# Altium schematic symbol library W25N04KVZEIR.SchLib: 2 symbols
Pins are listed as number, name and electrical type; pins without a type are passive.

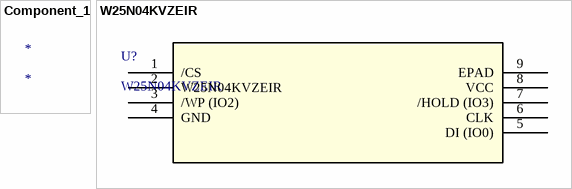
[diagram p0: symbols Component_1 to W25N04KVZEIR]

## Component_1
designator *

## W25N04KVZEIR
designator U?
No Description Available; Mfr_Name: Winbond; Type: DEV; Copyright: Copyright (C) 2024 Ultra Librarian. All rights reserved.; Manufacturer_Part_Number: W25N04KVZEIR; RefDes: RefDes
footprint SMT_4KVZEIR_WIN
pins: 1 /CS, 2 W25N04KVZEIR, 3 /WP (IO2), 4 GND (power), 5 DI (IO0), 6 CLK, 7 /HOLD (IO3), 8 VCC (power), 9 EPAD